# EAGLE library part MC1372 (library COCO2Library)
MC1372
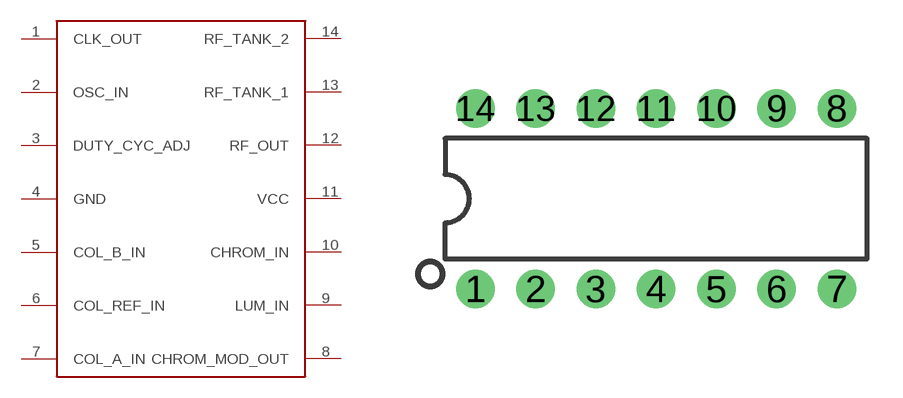
[diagram p0: symbol with the pads of DIP14; footprint DIP14]

Designator prefix U

## MC1372  [DIP14]
1  CLK_OUT
2  OSC_IN
3  DUTY_CYC_ADJ
4  GND
5  COL_B_IN
6  COL_REF_IN
7  COL_A_IN
8  CHROM_MOD_OUT
9  LUM_IN
10  CHROM_IN
11  VCC
12  RF_OUT
13  RF_TANK_1
14  RF_TANK_2

## Footprint DIP14 (pad centres in mm)
DIP14
drill 0.813 pad 1.626: 1 -7.62,-3.81; 2 -5.08,-3.81; 3 -2.54,-3.81; 4 0,-3.81; 5 2.54,-3.81; 6 5.08,-3.81; 7 7.62,-3.81; 8 7.62,3.81; 9 5.08,3.81; 10 2.54,3.81; 11 0,3.81; 12 -2.54,3.81; 13 -5.08,3.81; 14 -7.62,3.81